# Altium footprint library MZ7XA_FUN20171227.PcbLib: 33 footprints (part 3 of 3)
Each footprint in its own frame and in the unit in brackets; x right, y up, seen from the top. Pads: shape width x height; smd on the part's side, far side on the other; paste and mask are expansions set on the pad; w line width, h text height; cw(c..) or ccw(c..) is an arc to the next point about the centre after c.
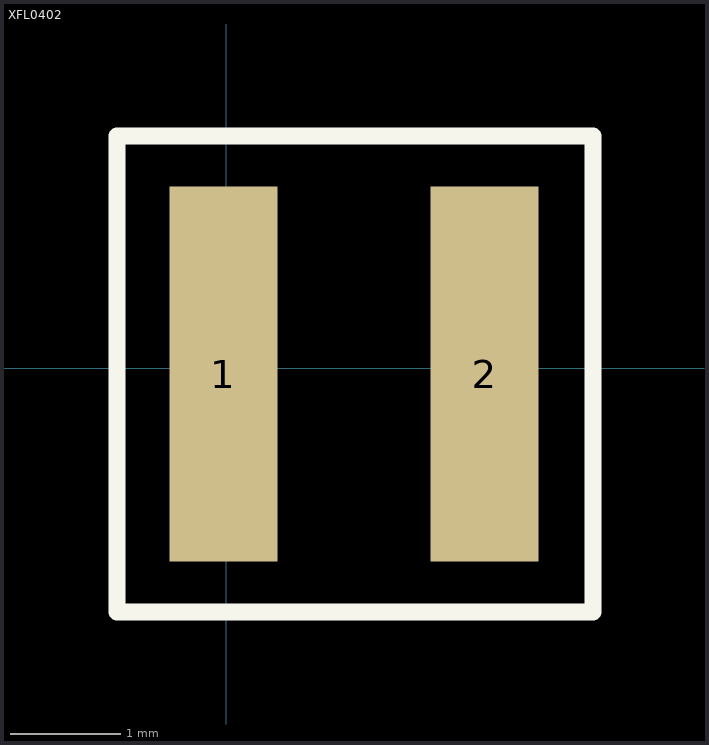
[diagram p2: the footprint, top view; thin cyan lines are the x and y axes]

## XFL0402 [mm]
pads (2):
  rect 0.98x3.4 smd: 1(-0.025,-0.051) 2(2.345,-0.051)
Top Overlay:
  lines w0.152: -0.991,-2.21 -0.991,2.09 ; -0.991,2.108 3.309,2.108 ; -0.973,-2.21 3.327,-2.21 ; 3.327,-2.192 3.327,2.108